# Altium footprint library KGM21NR71H681KT.PcbLib: 3 footprints
Each footprint in its own frame and in the unit in brackets; x right, y up, seen from the top. Pads: shape width x height; smd on the part's side, far side on the other; paste and mask are expansions set on the pad; w line width, h text height; cw(c..) or ccw(c..) is an arc to the next point about the centre after c.
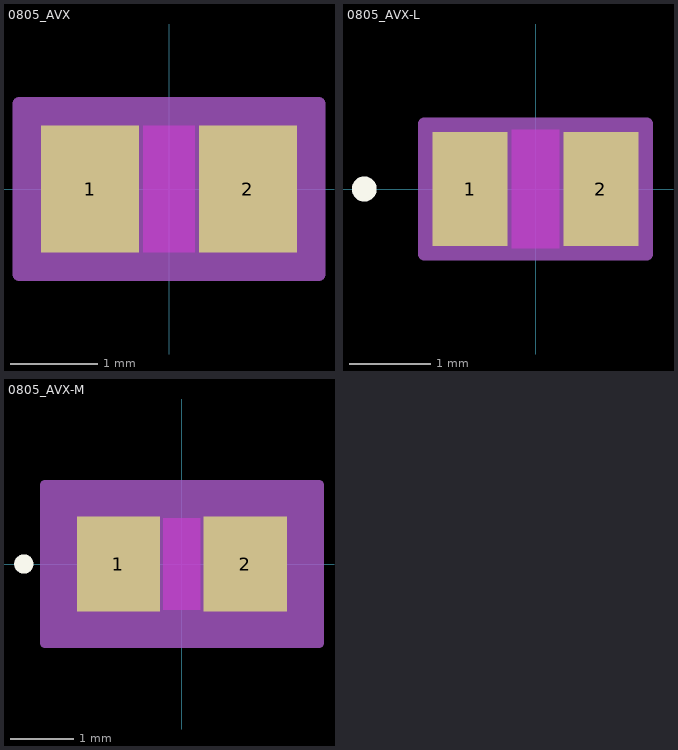
[diagram p0: the footprints below, top view; thin cyan lines are the x and y axes]

## 0805_AVX [mil]
pads (2):
  rect 44x57 smd paste+0 mask+0: 1(-35.5,0) 2(35.5,0)
Top Layer keep-out:
  region: -11.5,-26.5 -11.5,26.5 11.5,26.5 11.5,-26.5
Top Overlay:
  text ".Designator" at -137.5,-25 h50
Keep-Out Layer:
  region: -11.5,-28.5 -11.5,28.5 11.5,28.5 11.5,-28.5
Mechanical 13:
  circle w1: c-30.5,0 r0
  lines w1: -43.5,-28.5 -43.5,28.5 ; -43.5,-28.5 -13.5,-28.5 -13.5,28.5 -43.5,28.5 ; -43.5,-28.5 43.5,-28.5 ; -43.5,-28.5 -43.5,28.5 ; -43.5,28.5 43.5,28.5 ; 43.5,-28.5 13.5,-28.5 13.5,28.5 43.5,28.5 ; 43.5,-28.5 43.5,28.5 ; 43.5,-28.5 43.5,28.5
  text ".Designator" at -137.5,-25 h50
Mechanical 15:
  region: 67.5,-38.5 -67.5,-38.5 -67.5,38.5 67.5,38.5
  lines w6: -67.5,-38.5 -67.5,38.5 67.5,38.5 67.5,-38.5 -67.5,-38.5
3D body "0805_AVX.step": height 37.01, standoff 0, extent -43.5,-28.5 43.5,28.5

## 0805_AVX-L [mil]
pads (2):
  rect 36x55 smd paste+0 mask+0: 1(-31.5,0) 2(31.5,0)
Top Layer keep-out:
  region: -11.5,-26.5 -11.5,26.5 11.5,26.5 11.5,-26.5
Top Overlay:
  circle w6: c-82.5,0 r3
  text ".Designator" at -137.5,-25 h50
Keep-Out Layer:
  region: -11.5,-28.5 -11.5,28.5 11.5,28.5 11.5,-28.5
Mechanical 13:
  circle w1: c-26.5,0 r3
  lines w1: -43.5,-28.5 -43.5,28.5 ; -43.5,-28.5 -13.5,-28.5 -13.5,28.5 -43.5,28.5 ; -43.5,-28.5 43.5,-28.5 ; -43.5,-28.5 -43.5,28.5 ; -43.5,28.5 43.5,28.5 ; 43.5,-28.5 13.5,-28.5 13.5,28.5 43.5,28.5 ; 43.5,-28.5 43.5,28.5 ; 43.5,-28.5 43.5,28.5
  text ".Designator" at -137.5,-25 h50
Mechanical 15:
  region: 53.5,-31.5 -53.5,-31.5 -53.5,31.5 53.5,31.5
  lines w6: -53.5,-31.5 -53.5,31.5 53.5,31.5 53.5,-31.5 -53.5,-31.5
3D body "0805_AVX.step": height 37.01, standoff 0, extent -43.5,-28.5 43.5,28.5

## 0805_AVX-M [mil]
pads (2):
  rect 52x59 smd paste+0 mask+0: 1(-39.5,0) 2(39.5,0)
Top Layer keep-out:
  region: -11.5,-26.5 -11.5,26.5 11.5,26.5 11.5,-26.5
Top Overlay:
  circle w6: c-98.5,0 r3
  text ".Designator" at -137.5,-25 h50
Keep-Out Layer:
  region: -11.5,-28.5 -11.5,28.5 11.5,28.5 11.5,-28.5
Mechanical 13:
  circle w1: c-34.5,0 r3
  lines w1: -43.5,-28.5 -43.5,28.5 ; -43.5,-28.5 -13.5,-28.5 -13.5,28.5 -43.5,28.5 ; -43.5,-28.5 43.5,-28.5 ; -43.5,-28.5 -43.5,28.5 ; -43.5,28.5 43.5,28.5 ; 43.5,-28.5 13.5,-28.5 13.5,28.5 43.5,28.5 ; 43.5,-28.5 43.5,28.5 ; 43.5,-28.5 43.5,28.5
  text ".Designator" at -137.5,-25 h50
Mechanical 15:
  region: 85.5,-49.5 -85.5,-49.5 -85.5,49.5 85.5,49.5
  lines w6: -85.5,-49.5 -85.5,49.5 85.5,49.5 85.5,-49.5 -85.5,-49.5
3D body "0805_AVX.step": height 37.01, standoff 0, extent -43.5,-28.5 43.5,28.5